# Altium schematic symbol library CONBNC002.SchLib: 1 symbol
Pins are listed as number, name and electrical type; pins without a type are passive.

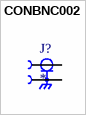
[diagram p0: symbol CONBNC002]

## CONBNC002
designator J?
BNC Connector Jack, Female Socket 50Ohm Panel Mount, Through Hole, Right Angle Solder; MP: CONBNC002; MF: Linx Technologies Inc.; SnapEDA_Link: https://www.snapeda.com/parts/CONBNC002/Linx/view-part/?ref=snap; Package: None; Check_prices: https://www.snapeda.com/parts/CONBNC002/Linx/view-part/?ref=eda; Value: *; Availability: In Stock; Purchase-URL: https://pricing.snapeda.com/search/part/CONBNC002/?ref=eda; Price: None
footprint LINX_CONBNC002
pins: 1, 2, S1 2, S2 2